# Altium footprint library 2005280040.PcbLib: 1 footprints
Each footprint in its own frame and in the unit in brackets; x right, y up, seen from the top. Pads: shape width x height; smd on the part's side, far side on the other; paste and mask are expansions set on the pad; w line width, h text height; cw(c..) or ccw(c..) is an arc to the next point about the centre after c.
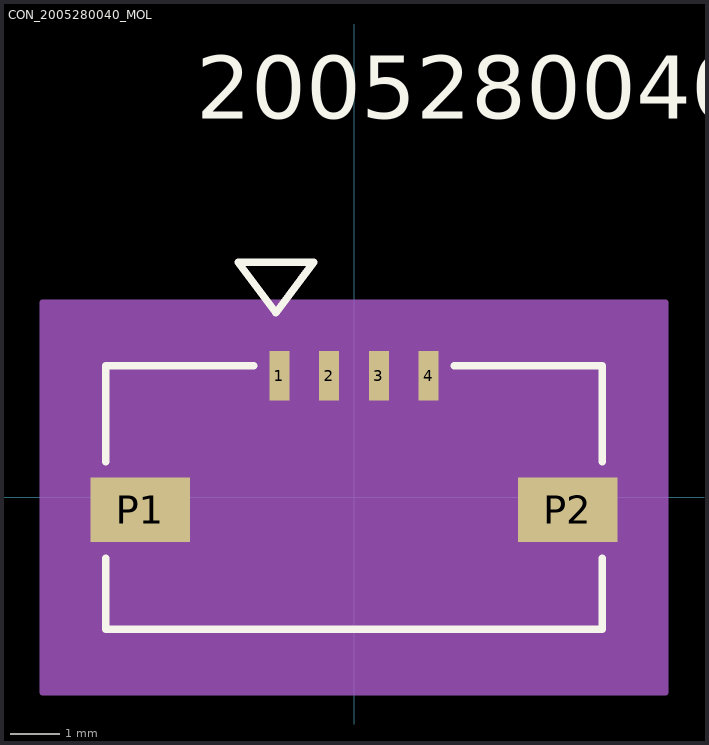
[diagram p0: the footprint, top view; thin cyan lines are the x and y axes]

## CON_2005280040_MOL [mm]
pads (6):
  rect 0.4x1 smd paste+0 mask+0.025: 1(-1.5,2.45) 2(-0.5,2.45) 3(0.5,2.45) 4(1.5,2.45)
  rect 2x1.3 smd paste+0 mask+0.025: P1(-4.3,-0.25) P2(4.3,-0.25)
Top Overlay:
  lines w0.152: -5,-1.22 -5,-2.65 5,-2.65 5,-1.22 ; -5,0.72 -5,2.65 -2.02,2.65 ; 2.02,2.65 5,2.65 5,0.72 ; -2.333,4.736 -0.809,4.736 -1.571,3.72 -2.333,4.736
  text "2005280040" at -3.175,7.62 h1.27
Mechanical 13:
  lines w0.127: -5,-2.65 5,-2.65 5,2.65 -5,2.65 -5,-2.65 ; -2.333,4.736 -0.809,4.736 -1.571,3.72 -2.333,4.736
  text "2005280040" at -3.175,7.62 h1.27
Mechanical 15:
  region: 6.27,3.92 -6.27,3.92 -6.27,-3.92 6.27,-3.92
  lines w0.127: -6.27,-3.92 -6.27,3.92 6.27,3.92 6.27,-3.92 -6.27,-3.92